# Altium integrated library idec.IntLib: 3 symbols
Pins are listed as number, name and electrical type; pins without a type are passive.

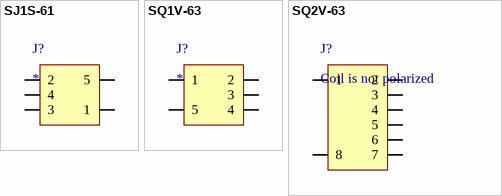
[diagram p0: symbols SJ1S-61 to SQ2V-63]

## SJ1S-61
designator J?
Relay Socket, 120 Vac
footprint SJ1S-61 (Relay Socket)
pins: 1, 2, 3, 4, 5

## SQ1V-63
designator J?
Relay Socket for RJ1V (not HC)
footprint SQ1V-63 (Relay Socket)
pins: 1, 2, 3, 4, 5

## SQ2V-63
designator J?, comment Coil is not polarized
Relay Socket for RJ1V (HC) & RJ2V
footprint SQ2V-63 (Relay Socket)
pins: 1, 2, 3, 4, 5, 6, 7, 8